# Altium schematic symbol library WR-WTB.SchLib: 259 symbols (part 1 of 5)
Pins are listed as number, name and electrical type; pins without a type are passive.

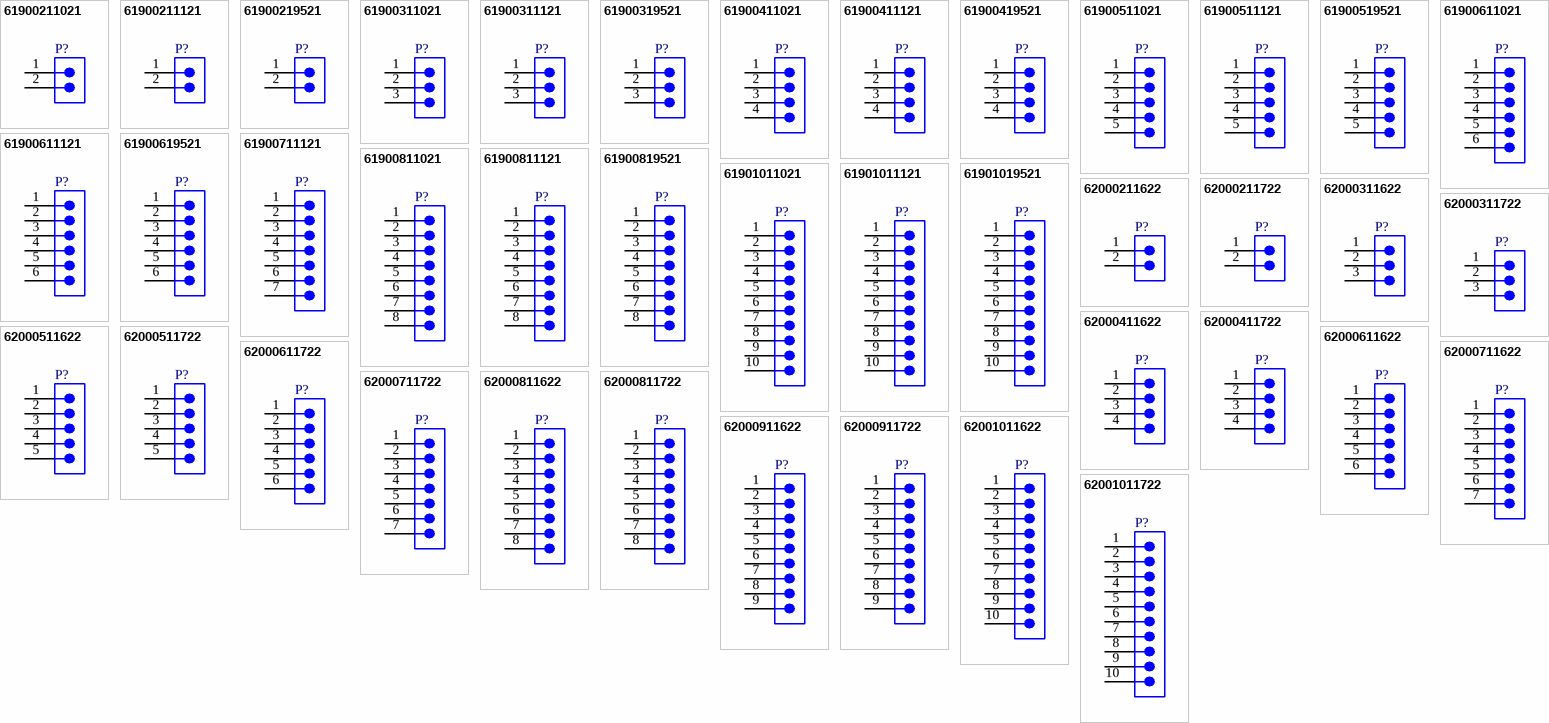
[diagram p0: symbols 61900211021 to 62001011722]

## 61900211021
designator P?  (value not drawn)
WR-WTB THT Male Left Angled Bottom Locking Header, pitch 2.54mm, 2pins; Manufacturer: Wurth Elektronik; Contact Resistance: 20mohm; Rated Current: 3A; Working Voltage: 250V(AC); Withstanding Voltage: 1000V(AC); Manufacturer Part Number: 61900211021; Product Series: WR-WTB; ComponentLink1Description: Website Link; ComponentLink1URL: https://www.we-online.com; ComponentLink2Description: Datasheet Link; ComponentLink2URL: https://www.we-online.com/components/products/datasheet/61900211021; Mount: Through Hole; Operating Temperature Min: -40degC; Operating Temperature Max: 105degC; Packaging: Bag; Length: 5.08mm; Width: 12.47mm; Height: 5.8mm; Gender: Male; Number of Pins: 2; Number of Rows: 1; Orientation: Right Angled Bottom Locking; Lead Pitch: 2.54mm
footprint 61900211021
pins: 1, 2

## 61900211121
designator P?  (value not drawn)
WR-WTB THT Male Vertical Locking Header, pitch 2.54mm, 2pins; Manufacturer: Wurth Elektronik; Contact Resistance: 20mohm; Rated Current: 3A; Working Voltage: 250V(AC); Withstanding Voltage: 1000V(AC); Manufacturer Part Number: 61900211121; Product Series: WR-WTB; ComponentLink1Description: Website Link; ComponentLink1URL: https://www.we-online.com; ComponentLink2Description: Datasheet Link; ComponentLink2URL: https://www.we-online.com/components/products/datasheet/61900211121; Mount: Through Hole; Operating Temperature Min: -40degC; Operating Temperature Max: 105degC; Packaging: Bag; Length: 5.08mm; Width: 5.8mm; Height: 11.5mm; Gender: Male; Number of Pins: 2; Number of Rows: 1; Orientation: Vertical; Lead Pitch: 2.54mm
footprint 61900211121
pins: 1, 2

## 61900219521
designator P?  (value not drawn)
WR-WTB THT Male Right Angled Top Locking Header, pitch 2.54mm, 2pins; Manufacturer: Wurth Elektronik; Contact Resistance: 20mohm; Rated Current: 3A; Working Voltage: 250V(AC); Withstanding Voltage: 1000V(AC); Manufacturer Part Number: 61900219521; Product Series: WR-WTB; ComponentLink1Description: Website Link; ComponentLink1URL: https://www.we-online.com; ComponentLink2Description: Datasheet Link; ComponentLink2URL: https://www.we-online.com/components/products/datasheet/61900219521; Mount: Through Hole; Operating Temperature Min: -40degC; Operating Temperature Max: 105degC; Packaging: Bag; Length: 5.08mm; Width: 12.47mm; Height: 5.8mm; Gender: Male; Number of Pins: 2; Number of Rows: 1; Orientation: Right Angled Top Locking; Lead Pitch: 2.54mm
footprint 61900219521
pins: 1, 2

## 61900311021
designator P?  (value not drawn)
WR-WTB THT Male Left Angled Bottom Locking Header, pitch 2.54mm, 3pins; Manufacturer: Wurth Elektronik; Contact Resistance: 20mohm; Rated Current: 3A; Working Voltage: 250V(AC); Withstanding Voltage: 1000V(AC); Manufacturer Part Number: 61900311021; Product Series: WR-WTB; ComponentLink1Description: Website Link; ComponentLink1URL: https://www.we-online.com; ComponentLink2Description: Datasheet Link; ComponentLink2URL: https://www.we-online.com/components/products/datasheet/61900311021; Mount: Through Hole; Operating Temperature Min: -40degC; Operating Temperature Max: 105degC; Packaging: Bag; Length: 7.62mm; Width: 12.47mm; Height: 5.8mm; Gender: Male; Number of Pins: 3; Number of Rows: 1; Orientation: Right Angled Bottom Locking; Lead Pitch: 2.54mm
footprint 61900311021
pins: 1, 2, 3

## 61900311121
designator P?  (value not drawn)
WR-WTB THT Male Vertical Locking Header, pitch 2.54mm, 3pins; Manufacturer: Wurth Elektronik; Contact Resistance: 20mohm; Rated Current: 3A; Working Voltage: 250V(AC); Withstanding Voltage: 1000V(AC); Manufacturer Part Number: 61900311121; Product Series: WR-WTB; ComponentLink1Description: Website Link; ComponentLink1URL: https://www.we-online.com; ComponentLink2Description: Datasheet Link; ComponentLink2URL: https://www.we-online.com/components/products/datasheet/61900311121; Mount: Through Hole; Operating Temperature Min: -40degC; Operating Temperature Max: 105degC; Packaging: Bag; Length: 7.62mm; Width: 5.8mm; Height: 11.5mm; Gender: Male; Number of Pins: 3; Number of Rows: 1; Orientation: Vertical; Lead Pitch: 2.54mm
footprint 61900311121
pins: 1, 2, 3

## 61900319521
designator P?  (value not drawn)
WR-WTB THT Male Right Angled Top Locking Header, pitch 2.54mm, 3pins; Manufacturer: Wurth Elektronik; Contact Resistance: 20mohm; Rated Current: 3A; Working Voltage: 250V(AC); Withstanding Voltage: 1000V(AC); Manufacturer Part Number: 61900319521; Product Series: WR-WTB; ComponentLink1Description: Website Link; ComponentLink1URL: https://www.we-online.com; ComponentLink2Description: Datasheet Link; ComponentLink2URL: https://www.we-online.com/components/products/datasheet/61900319521; Mount: Through Hole; Operating Temperature Min: -40degC; Operating Temperature Max: 105degC; Packaging: Bag; Length: 7.62mm; Width: 12.47mm; Height: 5.8mm; Gender: Male; Number of Pins: 3; Number of Rows: 1; Orientation: Right Angled Top Locking; Lead Pitch: 2.54mm
footprint 61900319521
pins: 1, 2, 3

## 61900411021
designator P?  (value not drawn)
WR-WTB THT Male Left Angled Bottom Locking Header, pitch 2.54mm, 4pins; Manufacturer: Wurth Elektronik; Contact Resistance: 20mohm; Rated Current: 3A; Working Voltage: 250V(AC); Withstanding Voltage: 1000V(AC); Manufacturer Part Number: 61900411021; Product Series: WR-WTB; ComponentLink1Description: Website Link; ComponentLink1URL: https://www.we-online.com; ComponentLink2Description: Datasheet Link; ComponentLink2URL: https://www.we-online.com/components/products/datasheet/61900411021; Mount: Through Hole; Operating Temperature Min: -40degC; Operating Temperature Max: 105degC; Packaging: Bag; Length: 10.16mm; Width: 12.47mm; Height: 5.8mm; Gender: Male; Number of Pins: 4; Number of Rows: 1; Orientation: Right Angled Bottom Locking; Lead Pitch: 2.54mm
footprint 61900411021
pins: 1, 2, 3, 4

## 61900411121
designator P?  (value not drawn)
WR-WTB THT Male Vertical Locking Header, pitch 2.54mm, 4pins; Manufacturer: Wurth Elektronik; Contact Resistance: 20mohm; Rated Current: 3A; Working Voltage: 250V(AC); Withstanding Voltage: 1000V(AC); Manufacturer Part Number: 61900411121; Product Series: WR-WTB; ComponentLink1Description: Website Link; ComponentLink1URL: https://www.we-online.com; ComponentLink2Description: Datasheet Link; ComponentLink2URL: https://www.we-online.com/components/products/datasheet/61900411121; Mount: Through Hole; Operating Temperature Min: -40degC; Operating Temperature Max: 105degC; Packaging: Bag; Length: 10.16mm; Width: 5.8mm; Height: 11.5mm; Gender: Male; Number of Pins: 4; Number of Rows: 1; Orientation: Vertical; Lead Pitch: 2.54mm
footprint 61900411121
pins: 1, 2, 3, 4

## 61900419521
designator P?  (value not drawn)
WR-WTB THT Male Right Angled Top Locking Header, pitch 2.54mm, 4pins; Manufacturer: Wurth Elektronik; Contact Resistance: 20mohm; Rated Current: 3A; Working Voltage: 250V(AC); Withstanding Voltage: 1000V(AC); Manufacturer Part Number: 61900419521; Product Series: WR-WTB; ComponentLink1Description: Website Link; ComponentLink1URL: https://www.we-online.com; ComponentLink2Description: Datasheet Link; ComponentLink2URL: https://www.we-online.com/components/products/datasheet/61900419521; Mount: Through Hole; Operating Temperature Min: -40degC; Operating Temperature Max: 105degC; Packaging: Bag; Length: 10.16mm; Width: 12.47mm; Height: 5.8mm; Gender: Male; Number of Pins: 4; Number of Rows: 1; Orientation: Right Angled Top Locking; Lead Pitch: 2.54mm
footprint 61900419521
pins: 1, 2, 3, 4

## 61900511021
designator P?  (value not drawn)
WR-WTB THT Male Left Angled Bottom Locking Header, pitch 2.54mm, 5pins; Manufacturer: Wurth Elektronik; Contact Resistance: 20mohm; Rated Current: 3A; Working Voltage: 250V(AC); Withstanding Voltage: 1000V(AC); Manufacturer Part Number: 61900511021; Product Series: WR-WTB; ComponentLink1Description: Website Link; ComponentLink1URL: https://www.we-online.com; ComponentLink2Description: Datasheet Link; ComponentLink2URL: https://www.we-online.com/components/products/datasheet/61900511021; Mount: Through Hole; Operating Temperature Min: -40degC; Operating Temperature Max: 105degC; Packaging: Bag; Length: 12.7mm; Width: 12.47mm; Height: 5.8mm; Gender: Male; Number of Pins: 5; Number of Rows: 1; Orientation: Right Angled Bottom Locking; Lead Pitch: 2.54mm
footprint 61900511021
pins: 1, 2, 3, 4, 5

## 61900511121
designator P?  (value not drawn)
WR-WTB THT Male Vertical Locking Header, pitch 2.54mm, 5pins; Manufacturer: Wurth Elektronik; Contact Resistance: 20mohm; Rated Current: 3A; Working Voltage: 250V(AC); Withstanding Voltage: 1000V(AC); Manufacturer Part Number: 61900511121; Product Series: WR-WTB; ComponentLink1Description: Website Link; ComponentLink1URL: https://www.we-online.com; ComponentLink2Description: Datasheet Link; ComponentLink2URL: https://www.we-online.com/components/products/datasheet/61900511121; Mount: Through Hole; Operating Temperature Min: -40degC; Operating Temperature Max: 105degC; Packaging: Bag; Length: 12.7mm; Width: 5.8mm; Height: 11.5mm; Gender: Male; Number of Pins: 5; Number of Rows: 1; Orientation: Vertical; Lead Pitch: 2.54mm
footprint 61900511121
pins: 1, 2, 3, 4, 5

## 61900519521
designator P?  (value not drawn)
WR-WTB THT Male Right Angled Top Locking Header, pitch 2.54mm, 5pins; Manufacturer: Wurth Elektronik; Contact Resistance: 20mohm; Rated Current: 3A; Working Voltage: 250V(AC); Withstanding Voltage: 1000V(AC); Manufacturer Part Number: 61900519521; Product Series: WR-WTB; ComponentLink1Description: Website Link; ComponentLink1URL: https://www.we-online.com; ComponentLink2Description: Datasheet Link; ComponentLink2URL: https://www.we-online.com/components/products/datasheet/61900519521; Mount: Through Hole; Operating Temperature Min: -40degC; Operating Temperature Max: 105degC; Packaging: Bag; Length: 12.7mm; Width: 12.47mm; Height: 5.8mm; Gender: Male; Number of Pins: 5; Number of Rows: 1; Orientation: Right Angled Top Locking; Lead Pitch: 2.54mm
footprint 61900519521
pins: 1, 2, 3, 4, 5

## 61900611021
designator P?  (value not drawn)
WR-WTB THT Male Left Angled Bottom Locking Header, pitch 2.54mm, 6pins; Manufacturer: Wurth Elektronik; Contact Resistance: 20mohm; Rated Current: 3A; Working Voltage: 250V(AC); Withstanding Voltage: 1000V(AC); Manufacturer Part Number: 61900611021; Product Series: WR-WTB; ComponentLink1Description: Website Link; ComponentLink1URL: https://www.we-online.com; ComponentLink2Description: Datasheet Link; ComponentLink2URL: https://www.we-online.com/components/products/datasheet/61900611021; Mount: Through Hole; Operating Temperature Min: -40degC; Operating Temperature Max: 105degC; Packaging: Bag; Length: 15.24mm; Width: 12.47mm; Height: 5.8mm; Gender: Male; Number of Pins: 6; Number of Rows: 1; Orientation: Right Angled Bottom Locking; Lead Pitch: 2.54mm
footprint 61900611021
pins: 1, 2, 3, 4, 5, 6

## 61900611121
designator P?  (value not drawn)
WR-WTB THT Male Vertical Locking Header, pitch 2.54mm, 6pins; Manufacturer: Wurth Elektronik; Contact Resistance: 20mohm; Rated Current: 3A; Working Voltage: 250V(AC); Withstanding Voltage: 1000V(AC); Manufacturer Part Number: 61900611121; Product Series: WR-WTB; ComponentLink1Description: Website Link; ComponentLink1URL: https://www.we-online.com; ComponentLink2Description: Datasheet Link; ComponentLink2URL: https://www.we-online.com/components/products/datasheet/61900611121; Mount: Through Hole; Operating Temperature Min: -40degC; Operating Temperature Max: 105degC; Packaging: Bag; Length: 15.24mm; Width: 5.8mm; Height: 11.5mm; Gender: Male; Number of Pins: 6; Number of Rows: 1; Orientation: Vertical; Lead Pitch: 2.54mm
footprint 61900611121
pins: 1, 2, 3, 4, 5, 6

## 61900619521
designator P?  (value not drawn)
WR-WTB THT Male Right Angled Top Locking Header, pitch 2.54mm, 6pins; Manufacturer: Wurth Elektronik; Contact Resistance: 20mohm; Rated Current: 3A; Working Voltage: 250V(AC); Withstanding Voltage: 1000V(AC); Manufacturer Part Number: 61900619521; Product Series: WR-WTB; ComponentLink1Description: Website Link; ComponentLink1URL: https://www.we-online.com; ComponentLink2Description: Datasheet Link; ComponentLink2URL: https://www.we-online.com/components/products/datasheet/61900619521; Mount: Through Hole; Operating Temperature Min: -40degC; Operating Temperature Max: 105degC; Packaging: Bag; Length: 15.24mm; Width: 12.47mm; Height: 5.8mm; Gender: Male; Number of Pins: 6; Number of Rows: 1; Orientation: Right Angled Top Locking; Lead Pitch: 2.54mm
footprint 61900619521
pins: 1, 2, 3, 4, 5, 6

## 61900711121
designator P?  (value not drawn)
WR-WTB THT Male Vertical Locking Header, pitch 2.54mm, 7pins; Manufacturer: Wurth Elektronik; Contact Resistance: 20mohm; Rated Current: 3A; Working Voltage: 250V(AC); Withstanding Voltage: 1000V(AC); Manufacturer Part Number: 61900711121; Product Series: WR-WTB; ComponentLink1Description: Website Link; ComponentLink1URL: https://www.we-online.com; ComponentLink2Description: Datasheet Link; ComponentLink2URL: https://www.we-online.com/components/products/datasheet/61900711121; Mount: Through Hole; Operating Temperature Min: -40degC; Operating Temperature Max: 105degC; Packaging: Bag; Length: 17.78mm; Width: 5.8mm; Height: 11.5mm; Gender: Male; Number of Pins: 7; Number of Rows: 1; Orientation: Vertical; Lead Pitch: 2.54mm
footprint 61900711121
pins: 1, 2, 3, 4, 5, 6, 7

## 61900811021
designator P?  (value not drawn)
WR-WTB THT Male Left Angled Bottom Locking Header, pitch 2.54mm, 8pins; Manufacturer: Wurth Elektronik; Contact Resistance: 20mohm; Rated Current: 3A; Working Voltage: 250V(AC); Withstanding Voltage: 1000V(AC); Manufacturer Part Number: 61900811021; Product Series: WR-WTB; ComponentLink1Description: Website Link; ComponentLink1URL: https://www.we-online.com; ComponentLink2Description: Datasheet Link; ComponentLink2URL: https://www.we-online.com/components/products/datasheet/61900811021; Mount: Through Hole; Operating Temperature Min: -40degC; Operating Temperature Max: 105degC; Packaging: Bag; Length: 20.32mm; Width: 12.47mm; Height: 5.8mm; Gender: Male; Number of Pins: 8; Number of Rows: 1; Orientation: Right Angled Bottom Locking; Lead Pitch: 2.54mm
footprint 61900811021
pins: 1, 2, 3, 4, 5, 6, 7, 8

## 61900811121
designator P?  (value not drawn)
WR-WTB THT Male Vertical Locking Header, pitch 2.54mm, 8pins; Manufacturer: Wurth Elektronik; Contact Resistance: 20mohm; Rated Current: 3A; Working Voltage: 250V(AC); Withstanding Voltage: 1000V(AC); Manufacturer Part Number: 61900811121; Product Series: WR-WTB; ComponentLink1Description: Website Link; ComponentLink1URL: https://www.we-online.com; ComponentLink2Description: Datasheet Link; ComponentLink2URL: https://www.we-online.com/components/products/datasheet/61900811121; Mount: Through Hole; Operating Temperature Min: -40degC; Operating Temperature Max: 105degC; Packaging: Bag; Length: 20.32mm; Width: 5.8mm; Height: 11.5mm; Gender: Male; Number of Pins: 8; Number of Rows: 1; Orientation: Vertical; Lead Pitch: 2.54mm
footprint 61900811121
pins: 1, 2, 3, 4, 5, 6, 7, 8

## 61900819521
designator P?  (value not drawn)
WR-WTB THT Male Right Angled Top Locking Header, pitch 2.54mm, 8pins; Manufacturer: Wurth Elektronik; Contact Resistance: 20mohm; Rated Current: 3A; Working Voltage: 250V(AC); Withstanding Voltage: 1000V(AC); Manufacturer Part Number: 61900819521; Product Series: WR-WTB; ComponentLink1Description: Website Link; ComponentLink1URL: https://www.we-online.com; ComponentLink2Description: Datasheet Link; ComponentLink2URL: https://www.we-online.com/components/products/datasheet/61900819521; Mount: Through Hole; Operating Temperature Min: -40degC; Operating Temperature Max: 105degC; Packaging: Bag; Length: 20.32mm; Width: 12.47mm; Height: 5.8mm; Gender: Male; Number of Pins: 8; Number of Rows: 1; Orientation: Right Angled Top Locking; Lead Pitch: 2.54mm
footprint 61900819521
pins: 1, 2, 3, 4, 5, 6, 7, 8

## 61901011021
designator P?  (value not drawn)
WR-WTB THT Male Left Angled Bottom Locking Header, pitch 2.54mm, 10pins; Manufacturer: Wurth Elektronik; Contact Resistance: 20mohm; Rated Current: 3A; Working Voltage: 250V(AC); Withstanding Voltage: 1000V(AC); Manufacturer Part Number: 61901011021; Product Series: WR-WTB; ComponentLink1Description: Website Link; ComponentLink1URL: https://www.we-online.com; ComponentLink2Description: Datasheet Link; ComponentLink2URL: https://www.we-online.com/components/products/datasheet/61901011021; Mount: Through Hole; Operating Temperature Min: -40degC; Operating Temperature Max: 105degC; Packaging: Bag; Length: 25.4mm; Width: 12.47mm; Height: 5.8mm; Gender: Male; Number of Pins: 10; Number of Rows: 1; Orientation: Right Angled Bottom Locking; Lead Pitch: 2.54mm
footprint 61901011021
pins: 1, 2, 3, 4, 5, 6, 7, 8, 9, 10

## 61901011121
designator P?  (value not drawn)
WR-WTB THT Male Vertical Locking Header, pitch 2.54mm, 10pins; Manufacturer: Wurth Elektronik; Contact Resistance: 20mohm; Rated Current: 3A; Working Voltage: 250V(AC); Withstanding Voltage: 1000V(AC); Manufacturer Part Number: 61901011121; Product Series: WR-WTB; ComponentLink1Description: Website Link; ComponentLink1URL: https://www.we-online.com; ComponentLink2Description: Datasheet Link; ComponentLink2URL: https://www.we-online.com/components/products/datasheet/61901011121; Mount: Through Hole; Operating Temperature Min: -40degC; Operating Temperature Max: 105degC; Packaging: Bag; Length: 25.4mm; Width: 5.8mm; Height: 11.5mm; Gender: Male; Number of Pins: 10; Number of Rows: 1; Orientation: Vertical; Lead Pitch: 2.54mm
footprint 61901011121
pins: 1, 2, 3, 4, 5, 6, 7, 8, 9, 10

## 61901019521
designator P?  (value not drawn)
WR-WTB THT Male Right Angled Top Locking Header, pitch 2.54mm, 10pins; Manufacturer: Wurth Elektronik; Contact Resistance: 20mohm; Rated Current: 3A; Working Voltage: 250V(AC); Withstanding Voltage: 1000V(AC); Manufacturer Part Number: 61901019521; Product Series: WR-WTB; ComponentLink1Description: Website Link; ComponentLink1URL: https://www.we-online.com; ComponentLink2Description: Datasheet Link; ComponentLink2URL: https://www.we-online.com/components/products/datasheet/61901019521; Mount: Through Hole; Operating Temperature Min: -40degC; Operating Temperature Max: 105degC; Packaging: Bag; Length: 25.4mm; Width: 12.47mm; Height: 5.8mm; Gender: Male; Number of Pins: 10; Number of Rows: 1; Orientation: Right Angled Top Locking; Lead Pitch: 2.54mm
footprint 61901019521
pins: 1, 2, 3, 4, 5, 6, 7, 8, 9, 10

## 62000211622
designator P?  (value not drawn)
WR-WTB Male Vertical Shrouded Header, pitch 2mm, 2pins; Manufacturer: Wurth Elektronik; Contact Resistance: 20mohm; Rated Current: 2A; Working Voltage: 125V(AC); Withstanding Voltage: 800V(AC); Manufacturer Part Number: 62000211622; Product Series: WR-WTB; ComponentLink1Description: Website Link; ComponentLink1URL: https://www.we-online.com; ComponentLink2Description: Datasheet Link; ComponentLink2URL: https://www.we-online.com/components/products/datasheet/62000211622; Mount: Through Hole; Operating Temperature Min: -25degC; Operating Temperature Max: 85degC; Packaging: Bag; Length: 6mm; Width: 4.7mm; Height: 6.1mm; Gender: Male; Number of Pins: 2; Number of Rows: 1; Orientation: Vertical; Lead Pitch: 2mm
footprint 62000211622
pins: 1, 2

## 62000211722
designator P?  (value not drawn)
WR-WTB THT Male Horizontal Shrouded Header, pitch 2mm, 2pins; Manufacturer: Wurth Elektronik; Contact Resistance: 20mohm; Rated Current: 2A; Working Voltage: 125V(AC); Withstanding Voltage: 800V(AC); Manufacturer Part Number: 62000211722; Product Series: WR-WTB; ComponentLink1Description: Website Link; ComponentLink1URL: https://www.we-online.com; ComponentLink2Description: Datasheet Link; ComponentLink2URL: https://www.we-online.com/components/products/datasheet/62000211722; Mount: Through Hole; Operating Temperature Min: -25degC; Operating Temperature Max: 85degC; Packaging: Bag; Length: 6mm; Width: 7.6mm; Height: 4.5mm; Gender: Male; Number of Pins: 2; Number of Rows: 1; Orientation: Horizontal; Lead Pitch: 2mm
footprint 62000211722
pins: 1, 2

## 62000311622
designator P?  (value not drawn)
WR-WTB Male Vertical Shrouded Header, pitch 2mm, 3pins; Manufacturer: Wurth Elektronik; Contact Resistance: 20mohm; Rated Current: 2A; Working Voltage: 125V(AC); Withstanding Voltage: 800V(AC); Manufacturer Part Number: 62000311622; Product Series: WR-WTB; ComponentLink1Description: Website Link; ComponentLink1URL: https://www.we-online.com; ComponentLink2Description: Datasheet Link; ComponentLink2URL: https://www.we-online.com/components/products/datasheet/62000311622; Mount: Through Hole; Operating Temperature Min: -25degC; Operating Temperature Max: 85degC; Packaging: Bag; Length: 8mm; Width: 4.7mm; Height: 6.1mm; Gender: Male; Number of Pins: 3; Number of Rows: 1; Orientation: Vertical; Lead Pitch: 2mm
footprint 62000311622
pins: 1, 2, 3

## 62000311722
designator P?  (value not drawn)
WR-WTB THT Male Horizontal Shrouded Header, pitch 2mm, 3pins; Manufacturer: Wurth Elektronik; Contact Resistance: 20mohm; Rated Current: 2A; Working Voltage: 125V(AC); Withstanding Voltage: 800V(AC); Manufacturer Part Number: 62000311722; Product Series: WR-WTB; ComponentLink1Description: Website Link; ComponentLink1URL: https://www.we-online.com; ComponentLink2Description: Datasheet Link; ComponentLink2URL: https://www.we-online.com/components/products/datasheet/62000311722; Mount: Through Hole; Operating Temperature Min: -25degC; Operating Temperature Max: 85degC; Packaging: Bag; Length: 8mm; Width: 7.6mm; Height: 4.5mm; Gender: Male; Number of Pins: 3; Number of Rows: 1; Orientation: Horizontal; Lead Pitch: 2mm
footprint 62000311722
pins: 1, 2, 3

## 62000411622
designator P?  (value not drawn)
WR-WTB Male Vertical Shrouded Header, pitch 2mm, 4pins; Manufacturer: Wurth Elektronik; Contact Resistance: 20mohm; Rated Current: 2A; Working Voltage: 125V(AC); Withstanding Voltage: 800V(AC); Manufacturer Part Number: 62000411622; Product Series: WR-WTB; ComponentLink1Description: Website Link; ComponentLink1URL: https://www.we-online.com; ComponentLink2Description: Datasheet Link; ComponentLink2URL: https://www.we-online.com/components/products/datasheet/62000411622; Mount: Through Hole; Operating Temperature Min: -25degC; Operating Temperature Max: 85degC; Packaging: Bag; Length: 10mm; Width: 4.7mm; Height: 6.1mm; Gender: Male; Number of Pins: 4; Number of Rows: 1; Orientation: Vertical; Lead Pitch: 2mm
footprint 62000411622
pins: 1, 2, 3, 4

## 62000411722
designator P?  (value not drawn)
WR-WTB THT Male Horizontal Shrouded Header, pitch 2mm, 4pins; Manufacturer: Wurth Elektronik; Contact Resistance: 20mohm; Rated Current: 2A; Working Voltage: 125V(AC); Withstanding Voltage: 800V(AC); Manufacturer Part Number: 62000411722; Product Series: WR-WTB; ComponentLink1Description: Website Link; ComponentLink1URL: https://www.we-online.com; ComponentLink2Description: Datasheet Link; ComponentLink2URL: https://www.we-online.com/components/products/datasheet/62000411722; Mount: Through Hole; Operating Temperature Min: -25degC; Operating Temperature Max: 85degC; Packaging: Bag; Length: 10mm; Width: 7.6mm; Height: 4.5mm; Gender: Male; Number of Pins: 4; Number of Rows: 1; Orientation: Horizontal; Lead Pitch: 2mm
footprint 62000411722
pins: 1, 2, 3, 4

## 62000511622
designator P?  (value not drawn)
WR-WTB Male Vertical Shrouded Header, pitch 2mm, 5pins; Manufacturer: Wurth Elektronik; Contact Resistance: 20mohm; Rated Current: 2A; Working Voltage: 125V(AC); Withstanding Voltage: 800V(AC); Manufacturer Part Number: 62000511622; Product Series: WR-WTB; ComponentLink1Description: Website Link; ComponentLink1URL: https://www.we-online.com; ComponentLink2Description: Datasheet Link; ComponentLink2URL: https://www.we-online.com/components/products/datasheet/62000511622; Mount: Through Hole; Operating Temperature Min: -25degC; Operating Temperature Max: 85degC; Packaging: Bag; Length: 12mm; Width: 4.7mm; Height: 6.1mm; Gender: Male; Number of Pins: 5; Number of Rows: 1; Orientation: Vertical; Lead Pitch: 2mm
footprint 62000511622
pins: 1, 2, 3, 4, 5

## 62000511722
designator P?  (value not drawn)
WR-WTB THT Male Horizontal Shrouded Header, pitch 2mm, 5pins; Manufacturer: Wurth Elektronik; Contact Resistance: 20mohm; Rated Current: 2A; Working Voltage: 125V(AC); Withstanding Voltage: 800V(AC); Manufacturer Part Number: 62000511722; Product Series: WR-WTB; ComponentLink1Description: Website Link; ComponentLink1URL: https://www.we-online.com; ComponentLink2Description: Datasheet Link; ComponentLink2URL: https://www.we-online.com/components/products/datasheet/62000511722; Mount: Through Hole; Operating Temperature Min: -25degC; Operating Temperature Max: 85degC; Packaging: Bag; Length: 12mm; Width: 7.6mm; Height: 4.5mm; Gender: Male; Number of Pins: 5; Number of Rows: 1; Orientation: Horizontal; Lead Pitch: 2mm
footprint 62000511722
pins: 1, 2, 3, 4, 5

## 62000611622
designator P?  (value not drawn)
WR-WTB Male Vertical Shrouded Header, pitch 2mm, 6pins; Manufacturer: Wurth Elektronik; Contact Resistance: 20mohm; Rated Current: 2A; Working Voltage: 125V(AC); Withstanding Voltage: 800V(AC); Manufacturer Part Number: 62000611622; Product Series: WR-WTB; ComponentLink1Description: Website Link; ComponentLink1URL: https://www.we-online.com; ComponentLink2Description: Datasheet Link; ComponentLink2URL: https://www.we-online.com/components/products/datasheet/62000611622; Mount: Through Hole; Operating Temperature Min: -25degC; Operating Temperature Max: 85degC; Packaging: Bag; Length: 14mm; Width: 4.7mm; Height: 6.1mm; Gender: Male; Number of Pins: 6; Number of Rows: 1; Orientation: Vertical; Lead Pitch: 2mm
footprint 62000611622
pins: 1, 2, 3, 4, 5, 6

## 62000611722
designator P?  (value not drawn)
WR-WTB THT Male Horizontal Shrouded Header, pitch 2mm, 6pins; Manufacturer: Wurth Elektronik; Contact Resistance: 20mohm; Rated Current: 2A; Working Voltage: 125V(AC); Withstanding Voltage: 800V(AC); Manufacturer Part Number: 62000611722; Product Series: WR-WTB; ComponentLink1Description: Website Link; ComponentLink1URL: https://www.we-online.com; ComponentLink2Description: Datasheet Link; ComponentLink2URL: https://www.we-online.com/components/products/datasheet/62000611722; Mount: Through Hole; Operating Temperature Min: -25degC; Operating Temperature Max: 85degC; Packaging: Bag; Length: 14mm; Width: 7.6mm; Height: 4.5mm; Gender: Male; Number of Pins: 6; Number of Rows: 1; Orientation: Horizontal; Lead Pitch: 2mm
footprint 62000611722
pins: 1, 2, 3, 4, 5, 6

## 62000711622
designator P?  (value not drawn)
WR-WTB Male Vertical Shrouded Header, pitch 2mm, 7pins; Manufacturer: Wurth Elektronik; Contact Resistance: 20mohm; Rated Current: 2A; Working Voltage: 125V(AC); Withstanding Voltage: 800V(AC); Manufacturer Part Number: 62000711622; Product Series: WR-WTB; ComponentLink1Description: Website Link; ComponentLink1URL: https://www.we-online.com; ComponentLink2Description: Datasheet Link; ComponentLink2URL: https://www.we-online.com/components/products/datasheet/62000711622; Mount: Through Hole; Operating Temperature Min: -25degC; Operating Temperature Max: 85degC; Packaging: Bag; Length: 16mm; Width: 4.7mm; Height: 6.1mm; Gender: Male; Number of Pins: 7; Number of Rows: 1; Orientation: Vertical; Lead Pitch: 2mm
footprint 62000711622
pins: 1, 2, 3, 4, 5, 6, 7

## 62000711722
designator P?  (value not drawn)
WR-WTB THT Male Horizontal Shrouded Header, pitch 2mm, 7pins; Manufacturer: Wurth Elektronik; Contact Resistance: 20mohm; Rated Current: 2A; Working Voltage: 125V(AC); Withstanding Voltage: 800V(AC); Manufacturer Part Number: 62000711722; Product Series: WR-WTB; ComponentLink1Description: Website Link; ComponentLink1URL: https://www.we-online.com; ComponentLink2Description: Datasheet Link; ComponentLink2URL: https://www.we-online.com/components/products/datasheet/62000711722; Mount: Through Hole; Operating Temperature Min: -25degC; Operating Temperature Max: 85degC; Packaging: Bag; Length: 16mm; Width: 7.6mm; Height: 4.5mm; Gender: Male; Number of Pins: 7; Number of Rows: 1; Orientation: Horizontal; Lead Pitch: 2mm
footprint 62000711722
pins: 1, 2, 3, 4, 5, 6, 7

## 62000811622
designator P?  (value not drawn)
WR-WTB Male Vertical Shrouded Header, pitch 2mm, 8pins; Manufacturer: Wurth Elektronik; Contact Resistance: 20mohm; Rated Current: 2A; Working Voltage: 125V(AC); Withstanding Voltage: 800V(AC); Manufacturer Part Number: 62000811622; Product Series: WR-WTB; ComponentLink1Description: Website Link; ComponentLink1URL: https://www.we-online.com; ComponentLink2Description: Datasheet Link; ComponentLink2URL: https://www.we-online.com/components/products/datasheet/62000811622; Mount: Through Hole; Operating Temperature Min: -25degC; Operating Temperature Max: 85degC; Packaging: Bag; Length: 18mm; Width: 4.7mm; Height: 6.1mm; Gender: Male; Number of Pins: 8; Number of Rows: 1; Orientation: Vertical; Lead Pitch: 2mm
footprint 62000811622
pins: 1, 2, 3, 4, 5, 6, 7, 8

## 62000811722
designator P?  (value not drawn)
WR-WTB THT Male Horizontal Shrouded Header, pitch 2mm, 8pins; Manufacturer: Wurth Elektronik; Contact Resistance: 20mohm; Rated Current: 2A; Working Voltage: 125V(AC); Withstanding Voltage: 800V(AC); Manufacturer Part Number: 62000811722; Product Series: WR-WTB; ComponentLink1Description: Website Link; ComponentLink1URL: https://www.we-online.com; ComponentLink2Description: Datasheet Link; ComponentLink2URL: https://www.we-online.com/components/products/datasheet/62000811722; Mount: Through Hole; Operating Temperature Min: -25degC; Operating Temperature Max: 85degC; Packaging: Bag; Length: 18mm; Width: 7.6mm; Height: 4.5mm; Gender: Male; Number of Pins: 8; Number of Rows: 1; Orientation: Horizontal; Lead Pitch: 2mm
footprint 62000811722
pins: 1, 2, 3, 4, 5, 6, 7, 8

## 62000911622
designator P?  (value not drawn)
WR-WTB Male Vertical Shrouded Header, pitch 2mm, 9pins; Manufacturer: Wurth Elektronik; Contact Resistance: 20mohm; Rated Current: 2A; Working Voltage: 125V(AC); Withstanding Voltage: 800V(AC); Manufacturer Part Number: 62000911622; Product Series: WR-WTB; ComponentLink1Description: Website Link; ComponentLink1URL: https://www.we-online.com; ComponentLink2Description: Datasheet Link; ComponentLink2URL: https://www.we-online.com/components/products/datasheet/62000911622; Mount: Through Hole; Operating Temperature Min: -25degC; Operating Temperature Max: 85degC; Packaging: Bag; Length: 20mm; Width: 4.7mm; Height: 6.1mm; Gender: Male; Number of Pins: 9; Number of Rows: 1; Orientation: Vertical; Lead Pitch: 2mm
footprint 62000911622
pins: 1, 2, 3, 4, 5, 6, 7, 8, 9

## 62000911722
designator P?  (value not drawn)
WR-WTB THT Male Horizontal Shrouded Header, pitch 2mm, 9pins; Manufacturer: Wurth Elektronik; Contact Resistance: 20mohm; Rated Current: 2A; Working Voltage: 125V(AC); Withstanding Voltage: 800V(AC); Manufacturer Part Number: 62000911722; Product Series: WR-WTB; ComponentLink1Description: Website Link; ComponentLink1URL: https://www.we-online.com; ComponentLink2Description: Datasheet Link; ComponentLink2URL: https://www.we-online.com/components/products/datasheet/62000911722; Mount: Through Hole; Operating Temperature Min: -25degC; Operating Temperature Max: 85degC; Packaging: Bag; Length: 20mm; Width: 7.6mm; Height: 4.5mm; Gender: Male; Number of Pins: 9; Number of Rows: 1; Orientation: Horizontal; Lead Pitch: 2mm
footprint 62000911722
pins: 1, 2, 3, 4, 5, 6, 7, 8, 9

## 62001011622
designator P?  (value not drawn)
WR-WTB Male Vertical Shrouded Header, pitch 2mm, 10pins; Manufacturer: Wurth Elektronik; Contact Resistance: 20mohm; Rated Current: 2A; Working Voltage: 125V(AC); Withstanding Voltage: 800V(AC); Manufacturer Part Number: 62001011622; Product Series: WR-WTB; ComponentLink1Description: Website Link; ComponentLink1URL: https://www.we-online.com; ComponentLink2Description: Datasheet Link; ComponentLink2URL: https://www.we-online.com/components/products/datasheet/62001011622; Mount: Through Hole; Operating Temperature Min: -25degC; Operating Temperature Max: 85degC; Packaging: Bag; Length: 22mm; Width: 4.7mm; Height: 6.1mm; Gender: Male; Number of Pins: 10; Number of Rows: 1; Orientation: Vertical; Lead Pitch: 2mm
footprint 62001011622
pins: 1, 2, 3, 4, 5, 6, 7, 8, 9, 10

## 62001011722
designator P?  (value not drawn)
WR-WTB THT Male Horizontal Shrouded Header, pitch 2mm, 10pins; Manufacturer: Wurth Elektronik; Contact Resistance: 20mohm; Rated Current: 2A; Working Voltage: 125V(AC); Withstanding Voltage: 800V(AC); Manufacturer Part Number: 62001011722; Product Series: WR-WTB; ComponentLink1Description: Website Link; ComponentLink1URL: https://www.we-online.com; ComponentLink2Description: Datasheet Link; ComponentLink2URL: https://www.we-online.com/components/products/datasheet/62001011722; Mount: Through Hole; Operating Temperature Min: -25degC; Operating Temperature Max: 85degC; Packaging: Bag; Length: 22mm; Width: 7.6mm; Height: 4.5mm; Gender: Male; Number of Pins: 10; Number of Rows: 1; Orientation: Horizontal; Lead Pitch: 2mm
footprint 62001011722
pins: 1, 2, 3, 4, 5, 6, 7, 8, 9, 10

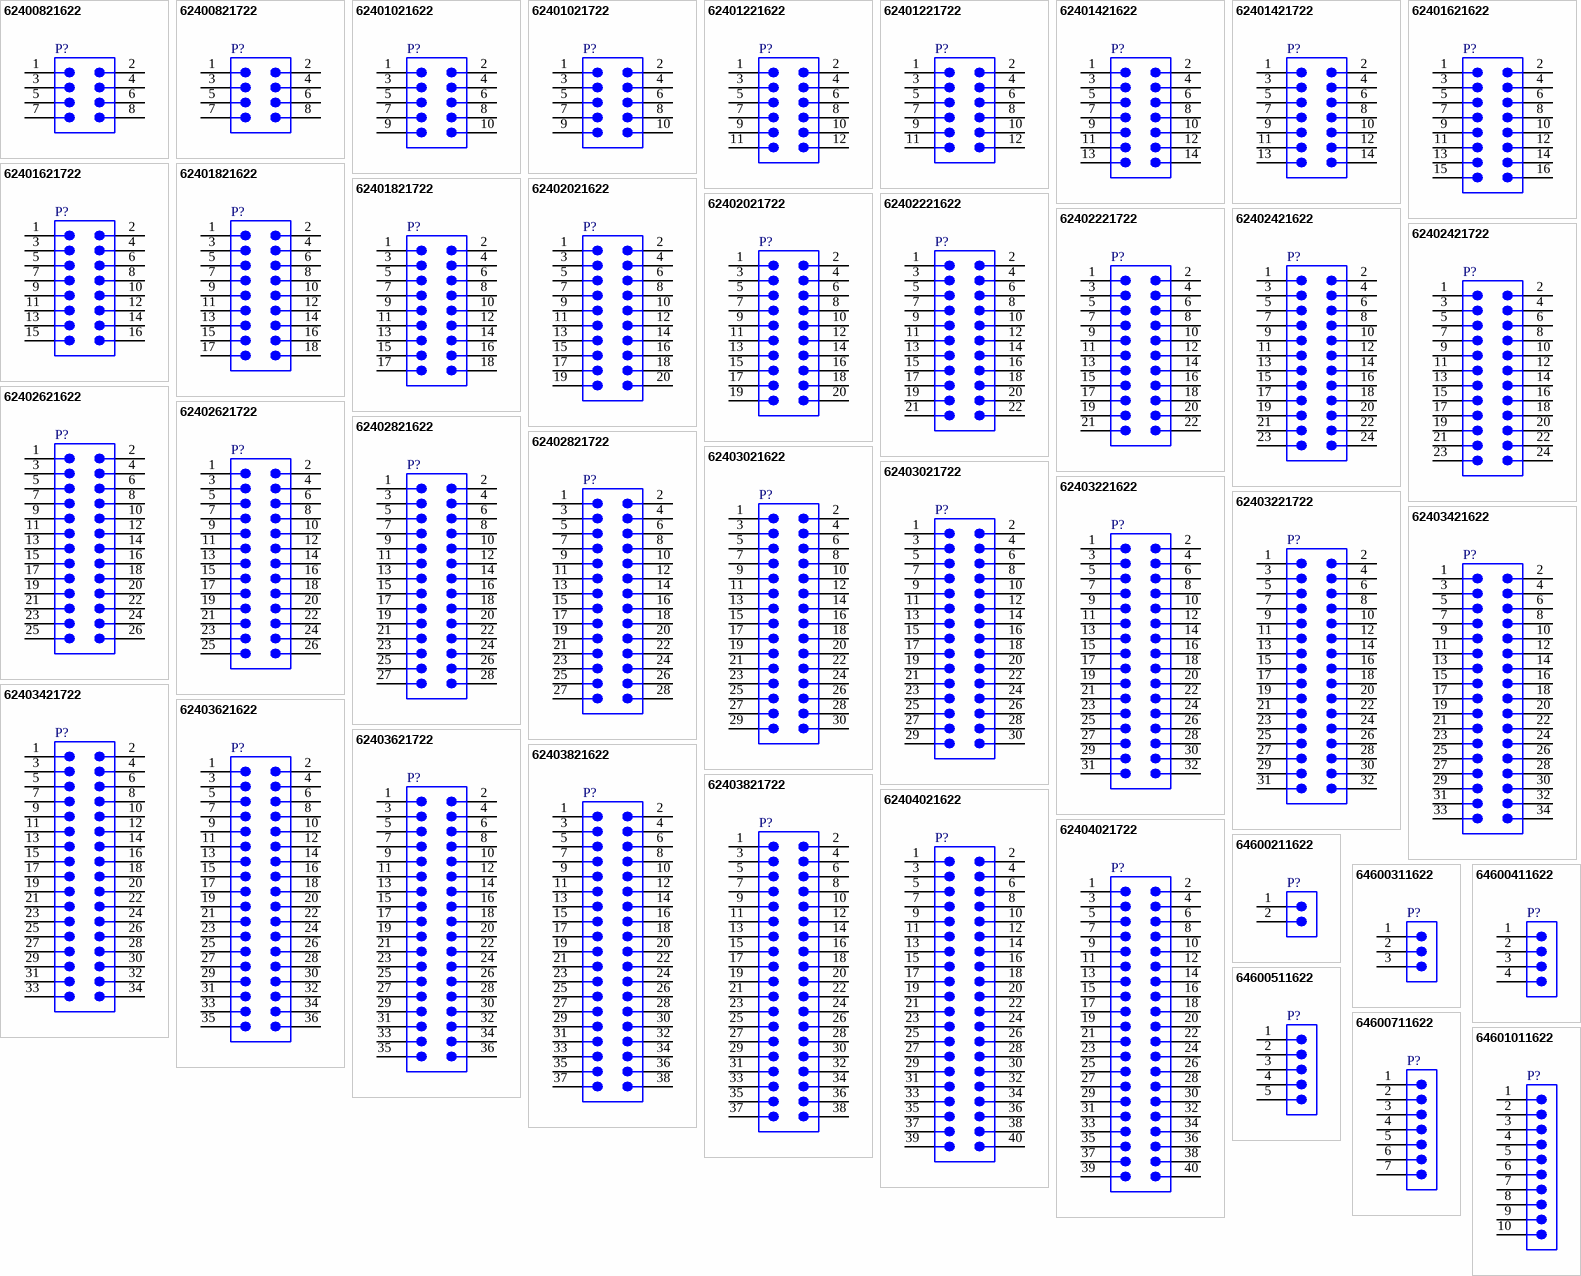
[diagram p1: symbols 62400821622 to 64601011622]

## 62400821622
designator P?  (value not drawn)
WR-WTB THT Male Vertical Shrouded Header with positive locking, Dual Row, pitch 2mm, 8pins; Manufacturer: Wurth Elektronik; Contact Resistance: 20mohm; Rated Current: 3A; Working Voltage: 250V(AC); Withstanding Voltage: 1000V(AC); Manufacturer Part Number: 62400821622; Product Series: WR-WTB; ComponentLink1Description: Website Link; ComponentLink1URL: https://www.we-online.com; ComponentLink2Description: Datasheet Link; ComponentLink2URL: https://www.we-online.com/components/products/datasheet/62400821622; Mount: Through Hole; Operating Temperature Min: -25degC; Operating Temperature Max: 85degC; Packaging: Tube; Length: 11.4mm; Width: 11.5mm; Height: 11.6mm; Gender: Male; Number of Pins: 8; Number of Rows: 2; Orientation: Vertical; Lead Pitch: 2mm
footprint 62400821622
pins: 1, 2, 3, 4, 5, 6, 7, 8

## 62400821722
designator P?  (value not drawn)
WR-WTB THT Male Horizontal Shrouded Header with positive locking, Dual Row, pitch 2mm, 8pins; Manufacturer: Wurth Elektronik; Contact Resistance: 20mohm; Rated Current: 3A; Working Voltage: 250V(AC); Withstanding Voltage: 1000V(AC); Manufacturer Part Number: 62400821722; Product Series: WR-WTB; ComponentLink1Description: Website Link; ComponentLink1URL: https://www.we-online.com; ComponentLink2Description: Datasheet Link; ComponentLink2URL: https://www.we-online.com/components/products/datasheet/62400821722; Mount: Through Hole; Operating Temperature Min: -25degC; Operating Temperature Max: 85degC; Packaging: Tube; Length: 11.4mm; Width: 14.5mm; Height: 11.7mm; Gender: Male; Number of Pins: 8; Number of Rows: 2; Orientation: Horizontal; Lead Pitch: 2mm
footprint 62400821722
pins: 1, 2, 3, 4, 5, 6, 7, 8

## 62401021622
designator P?  (value not drawn)
WR-WTB THT Male Vertical Shrouded Header with positive locking, Dual Row, pitch 2mm, 10pins; Manufacturer: Wurth Elektronik; Contact Resistance: 20mohm; Rated Current: 3A; Working Voltage: 250V(AC); Withstanding Voltage: 1000V(AC); Manufacturer Part Number: 62401021622; Product Series: WR-WTB; ComponentLink1Description: Website Link; ComponentLink1URL: https://www.we-online.com; ComponentLink2Description: Datasheet Link; ComponentLink2URL: https://www.we-online.com/components/products/datasheet/62401021622; Mount: Through Hole; Operating Temperature Min: -25degC; Operating Temperature Max: 85degC; Packaging: Tube; Length: 13.4mm; Width: 11.5mm; Height: 11.6mm; Gender: Male; Number of Pins: 10; Number of Rows: 2; Orientation: Vertical; Lead Pitch: 2mm
footprint 62401021622
pins: 1, 2, 3, 4, 5, 6, 7, 8, 9, 10

## 62401021722
designator P?  (value not drawn)
WR-WTB THT Male Horizontal Shrouded Header with positive locking, Dual Row, pitch 2mm, 10pins; Manufacturer: Wurth Elektronik; Contact Resistance: 20mohm; Rated Current: 3A; Working Voltage: 250V(AC); Withstanding Voltage: 1000V(AC); Manufacturer Part Number: 62401021722; Product Series: WR-WTB; ComponentLink1Description: Website Link; ComponentLink1URL: https://www.we-online.com; ComponentLink2Description: Datasheet Link; ComponentLink2URL: https://www.we-online.com/components/products/datasheet/62401021722; Mount: Through Hole; Operating Temperature Min: -25degC; Operating Temperature Max: 85degC; Packaging: Tube; Length: 13.4mm; Width: 14.5mm; Height: 11.7mm; Gender: Male; Number of Pins: 10; Number of Rows: 2; Orientation: Horizontal; Lead Pitch: 2mm
footprint 62401021722
pins: 1, 2, 3, 4, 5, 6, 7, 8, 9, 10

## 62401221622
designator P?  (value not drawn)
WR-WTB THT Male Vertical Shrouded Header with positive locking, Dual Row, pitch 2mm, 12pins; Manufacturer: Wurth Elektronik; Contact Resistance: 20mohm; Rated Current: 3A; Working Voltage: 250V(AC); Withstanding Voltage: 1000V(AC); Manufacturer Part Number: 62401221622; Product Series: WR-WTB; ComponentLink1Description: Website Link; ComponentLink1URL: https://www.we-online.com; ComponentLink2Description: Datasheet Link; ComponentLink2URL: https://www.we-online.com/components/products/datasheet/62401221622; Mount: Through Hole; Operating Temperature Min: -25degC; Operating Temperature Max: 85degC; Packaging: Tube; Length: 15.4mm; Width: 11.5mm; Height: 11.6mm; Gender: Male; Number of Pins: 12; Number of Rows: 2; Orientation: Vertical; Lead Pitch: 2mm
footprint 62401221622
pins: 1, 2, 3, 4, 5, 6, 7, 8, 9, 10, 11, 12

## 62401221722
designator P?  (value not drawn)
WR-WTB THT Male Horizontal Shrouded Header with positive locking, Dual Row, pitch 2mm, 12pins; Manufacturer: Wurth Elektronik; Contact Resistance: 20mohm; Rated Current: 3A; Working Voltage: 250V(AC); Withstanding Voltage: 1000V(AC); Manufacturer Part Number: 62401221722; Product Series: WR-WTB; ComponentLink1Description: Website Link; ComponentLink1URL: https://www.we-online.com; ComponentLink2Description: Datasheet Link; ComponentLink2URL: https://www.we-online.com/components/products/datasheet/62401221722; Mount: Through Hole; Operating Temperature Min: -25degC; Operating Temperature Max: 85degC; Packaging: Tube; Length: 15.4mm; Width: 14.5mm; Height: 11.7mm; Gender: Male; Number of Pins: 12; Number of Rows: 2; Orientation: Horizontal; Lead Pitch: 2mm
footprint 62401221722
pins: 1, 2, 3, 4, 5, 6, 7, 8, 9, 10, 11, 12

## 62401421622
designator P?  (value not drawn)
WR-WTB THT Male Vertical Shrouded Header with positive locking, Dual Row, pitch 2mm, 14pins; Manufacturer: Wurth Elektronik; Contact Resistance: 20mohm; Rated Current: 3A; Working Voltage: 250V(AC); Withstanding Voltage: 1000V(AC); Manufacturer Part Number: 62401421622; Product Series: WR-WTB; ComponentLink1Description: Website Link; ComponentLink1URL: https://www.we-online.com; ComponentLink2Description: Datasheet Link; ComponentLink2URL: https://www.we-online.com/components/products/datasheet/62401421622; Mount: Through Hole; Operating Temperature Min: -25degC; Operating Temperature Max: 85degC; Packaging: Tube; Length: 17.4mm; Width: 11.5mm; Height: 11.6mm; Gender: Male; Number of Pins: 14; Number of Rows: 2; Orientation: Vertical; Lead Pitch: 2mm
footprint 62401421622
pins: 1, 2, 3, 4, 5, 6, 7, 8, 9, 10, 11, 12, 13, 14

## 62401421722
designator P?  (value not drawn)
WR-WTB THT Male Horizontal Shrouded Header with positive locking, Dual Row, pitch 2mm, 14pins; Manufacturer: Wurth Elektronik; Contact Resistance: 20mohm; Rated Current: 3A; Working Voltage: 250V(AC); Withstanding Voltage: 1000V(AC); Manufacturer Part Number: 62401421722; Product Series: WR-WTB; ComponentLink1Description: Website Link; ComponentLink1URL: https://www.we-online.com; ComponentLink2Description: Datasheet Link; ComponentLink2URL: https://www.we-online.com/components/products/datasheet/62401421722; Mount: Through Hole; Operating Temperature Min: -25degC; Operating Temperature Max: 85degC; Packaging: Tube; Length: 17.4mm; Width: 14.5mm; Height: 11.7mm; Gender: Male; Number of Pins: 14; Number of Rows: 2; Orientation: Horizontal; Lead Pitch: 2mm
footprint 62401421722
pins: 1, 2, 3, 4, 5, 6, 7, 8, 9, 10, 11, 12, 13, 14

## 62401621622
designator P?  (value not drawn)
WR-WTB THT Male Vertical Shrouded Header with positive locking, Dual Row, pitch 2mm, 16pins; Manufacturer: Wurth Elektronik; Contact Resistance: 20mohm; Rated Current: 3A; Working Voltage: 250V(AC); Withstanding Voltage: 1000V(AC); Manufacturer Part Number: 62401621622; Product Series: WR-WTB; ComponentLink1Description: Website Link; ComponentLink1URL: https://www.we-online.com; ComponentLink2Description: Datasheet Link; ComponentLink2URL: https://www.we-online.com/components/products/datasheet/62401621622; Mount: Through Hole; Operating Temperature Min: -25degC; Operating Temperature Max: 85degC; Packaging: Tube; Length: 19.4mm; Width: 11.5mm; Height: 11.6mm; Gender: Male; Number of Pins: 16; Number of Rows: 2; Orientation: Vertical; Lead Pitch: 2mm
footprint 62401621622
pins: 1, 2, 3, 4, 5, 6, 7, 8, 9, 10, 11, 12, 13, 14, 15, 16

## 62401621722
designator P?  (value not drawn)
WR-WTB THT Male Horizontal Shrouded Header with positive locking, Dual Row, pitch 2mm, 16pins; Manufacturer: Wurth Elektronik; Contact Resistance: 20mohm; Rated Current: 3A; Working Voltage: 250V(AC); Withstanding Voltage: 1000V(AC); Manufacturer Part Number: 62401621722; Product Series: WR-WTB; ComponentLink1Description: Website Link; ComponentLink1URL: https://www.we-online.com; ComponentLink2Description: Datasheet Link; ComponentLink2URL: https://www.we-online.com/components/products/datasheet/62401621722; Mount: Through Hole; Operating Temperature Min: -25degC; Operating Temperature Max: 85degC; Packaging: Tube; Length: 19.4mm; Width: 14.5mm; Height: 11.7mm; Gender: Male; Number of Pins: 16; Number of Rows: 2; Orientation: Horizontal; Lead Pitch: 2mm
footprint 62401621722
pins: 1, 2, 3, 4, 5, 6, 7, 8, 9, 10, 11, 12, 13, 14, 15, 16

## 62401821622
designator P?  (value not drawn)
WR-WTB THT Male Vertical Shrouded Header with positive locking, Dual Row, pitch 2mm, 18pins; Manufacturer: Wurth Elektronik; Contact Resistance: 20mohm; Rated Current: 3A; Working Voltage: 250V(AC); Withstanding Voltage: 1000V(AC); Manufacturer Part Number: 62401821622; Product Series: WR-WTB; ComponentLink1Description: Website Link; ComponentLink1URL: https://www.we-online.com; ComponentLink2Description: Datasheet Link; ComponentLink2URL: https://www.we-online.com/components/products/datasheet/62401821622; Mount: Through Hole; Operating Temperature Min: -25degC; Operating Temperature Max: 85degC; Packaging: Tube; Length: 21.4mm; Width: 11.5mm; Height: 11.6mm; Gender: Male; Number of Pins: 18; Number of Rows: 2; Orientation: Vertical; Lead Pitch: 2mm
footprint 62401821622
pins: 1, 2, 3, 4, 5, 6, 7, 8, 9, 10, 11, 12, 13, 14, 15, 16, 17, 18

## 62401821722
designator P?  (value not drawn)
WR-WTB THT Male Horizontal Shrouded Header with positive locking, Dual Row, pitch 2mm, 18pins; Manufacturer: Wurth Elektronik; Contact Resistance: 20mohm; Rated Current: 3A; Working Voltage: 250V(AC); Withstanding Voltage: 1000V(AC); Manufacturer Part Number: 62401821722; Product Series: WR-WTB; ComponentLink1Description: Website Link; ComponentLink1URL: https://www.we-online.com; ComponentLink2Description: Datasheet Link; ComponentLink2URL: https://www.we-online.com/components/products/datasheet/62401821722; Mount: Through Hole; Operating Temperature Min: -25degC; Operating Temperature Max: 85degC; Packaging: Tube; Length: 21.4mm; Width: 14.5mm; Height: 11.7mm; Gender: Male; Number of Pins: 18; Number of Rows: 2; Orientation: Horizontal; Lead Pitch: 2mm
footprint 62401821722
pins: 1, 2, 3, 4, 5, 6, 7, 8, 9, 10, 11, 12, 13, 14, 15, 16, 17, 18

## 62402021622
designator P?  (value not drawn)
WR-WTB THT Male Vertical Shrouded Header with positive locking, Dual Row, pitch 2mm, 20pins; Manufacturer: Wurth Elektronik; Contact Resistance: 20mohm; Rated Current: 3A; Working Voltage: 250V(AC); Withstanding Voltage: 1000V(AC); Manufacturer Part Number: 62402021622; Product Series: WR-WTB; ComponentLink1Description: Website Link; ComponentLink1URL: https://www.we-online.com; ComponentLink2Description: Datasheet Link; ComponentLink2URL: https://www.we-online.com/components/products/datasheet/62402021622; Mount: Through Hole; Operating Temperature Min: -25degC; Operating Temperature Max: 85degC; Packaging: Tube; Length: 23.4mm; Width: 11.5mm; Height: 11.6mm; Gender: Male; Number of Pins: 20; Number of Rows: 2; Orientation: Vertical; Lead Pitch: 2mm
footprint 62402021622
pins: 1, 2, 3, 4, 5, 6, 7, 8, 9, 10, 11, 12, 13, 14, 15, 16, 17, 18, 19, 20

## 62402021722
designator P?  (value not drawn)
WR-WTB THT Male Horizontal Shrouded Header with positive locking, Dual Row, pitch 2mm, 20pins; Manufacturer: Wurth Elektronik; Contact Resistance: 20mohm; Rated Current: 3A; Working Voltage: 250V(AC); Withstanding Voltage: 1000V(AC); Manufacturer Part Number: 62402021722; Product Series: WR-WTB; ComponentLink1Description: Website Link; ComponentLink1URL: https://www.we-online.com; ComponentLink2Description: Datasheet Link; ComponentLink2URL: https://www.we-online.com/components/products/datasheet/62402021722; Mount: Through Hole; Operating Temperature Min: -25degC; Operating Temperature Max: 85degC; Packaging: Tube; Length: 23.4mm; Width: 14.5mm; Height: 11.7mm; Gender: Male; Number of Pins: 20; Number of Rows: 2; Orientation: Horizontal; Lead Pitch: 2mm
footprint 62402021722
pins: 1, 2, 3, 4, 5, 6, 7, 8, 9, 10, 11, 12, 13, 14, 15, 16, 17, 18, 19, 20

## 62402221622
designator P?  (value not drawn)
WR-WTB THT Male Vertical Shrouded Header with positive locking, Dual Row, pitch 2mm, 22pins; Manufacturer: Wurth Elektronik; Contact Resistance: 20mohm; Rated Current: 3A; Working Voltage: 250V(AC); Withstanding Voltage: 1000V(AC); Manufacturer Part Number: 62402221622; Product Series: WR-WTB; ComponentLink1Description: Website Link; ComponentLink1URL: https://www.we-online.com; ComponentLink2Description: Datasheet Link; ComponentLink2URL: https://www.we-online.com/components/products/datasheet/62402221622; Mount: Through Hole; Operating Temperature Min: -25degC; Operating Temperature Max: 85degC; Packaging: Tube; Length: 25.4mm; Width: 11.5mm; Height: 11.6mm; Gender: Male; Number of Pins: 22; Number of Rows: 2; Orientation: Vertical; Lead Pitch: 2mm
footprint 62402221622
pins: 1, 2, 3, 4, 5, 6, 7, 8, 9, 10, 11, 12, 13, 14, 15, 16, 17, 18, 19, 20, 21, 22

## 62402221722
designator P?  (value not drawn)
WR-WTB THT Male Horizontal Shrouded Header with positive locking, Dual Row, pitch 2mm, 22pins; Manufacturer: Wurth Elektronik; Contact Resistance: 20mohm; Rated Current: 3A; Working Voltage: 250V(AC); Withstanding Voltage: 1000V(AC); Manufacturer Part Number: 62402221722; Product Series: WR-WTB; ComponentLink1Description: Website Link; ComponentLink1URL: https://www.we-online.com; ComponentLink2Description: Datasheet Link; ComponentLink2URL: https://www.we-online.com/components/products/datasheet/62402221722; Mount: Through Hole; Operating Temperature Min: -25degC; Operating Temperature Max: 85degC; Packaging: Tube; Length: 25.4mm; Width: 14.5mm; Height: 11.7mm; Gender: Male; Number of Pins: 22; Number of Rows: 2; Orientation: Horizontal; Lead Pitch: 2mm
footprint 62402221722
pins: 1, 2, 3, 4, 5, 6, 7, 8, 9, 10, 11, 12, 13, 14, 15, 16, 17, 18, 19, 20, 21, 22

## 62402421622
designator P?  (value not drawn)
WR-WTB THT Male Vertical Shrouded Header with positive locking, Dual Row, pitch 2mm, 24pins; Manufacturer: Wurth Elektronik; Contact Resistance: 20mohm; Rated Current: 3A; Working Voltage: 250V(AC); Withstanding Voltage: 1000V(AC); Manufacturer Part Number: 62402421622; Product Series: WR-WTB; ComponentLink1Description: Website Link; ComponentLink1URL: https://www.we-online.com; ComponentLink2Description: Datasheet Link; ComponentLink2URL: https://www.we-online.com/components/products/datasheet/62402421622; Mount: Through Hole; Operating Temperature Min: -25degC; Operating Temperature Max: 85degC; Packaging: Tube; Length: 27.4mm; Width: 11.5mm; Height: 11.6mm; Gender: Male; Number of Pins: 24; Number of Rows: 2; Orientation: Vertical; Lead Pitch: 2mm
footprint 62402421622
pins: 1, 2, 3, 4, 5, 6, 7, 8, 9, 10, 11, 12, 13, 14, 15, 16, 17, 18, 19, 20, 21, 22, 23, 24

## 62402421722
designator P?  (value not drawn)
WR-WTB THT Male Horizontal Shrouded Header with positive locking, Dual Row, pitch 2mm, 24pins; Manufacturer: Wurth Elektronik; Contact Resistance: 20mohm; Rated Current: 3A; Working Voltage: 250V(AC); Withstanding Voltage: 1000V(AC); Manufacturer Part Number: 62402421722; Product Series: WR-WTB; ComponentLink1Description: Website Link; ComponentLink1URL: https://www.we-online.com; ComponentLink2Description: Datasheet Link; ComponentLink2URL: https://www.we-online.com/components/products/datasheet/62402421722; Mount: Through Hole; Operating Temperature Min: -25degC; Operating Temperature Max: 85degC; Packaging: Tube; Length: 27.4mm; Width: 14.5mm; Height: 11.7mm; Gender: Male; Number of Pins: 24; Number of Rows: 2; Orientation: Horizontal; Lead Pitch: 2mm
footprint 62402421722
pins: 1, 2, 3, 4, 5, 6, 7, 8, 9, 10, 11, 12, 13, 14, 15, 16, 17, 18, 19, 20, 21, 22, 23, 24